# Altium footprint library KF7_62_2P.PcbLib: 1 footprints
Each footprint in its own frame and in the unit in brackets; x right, y up, seen from the top. Pads: shape width x height; smd on the part's side, far side on the other; paste and mask are expansions set on the pad; w line width, h text height; cw(c..) or ccw(c..) is an arc to the next point about the centre after c.
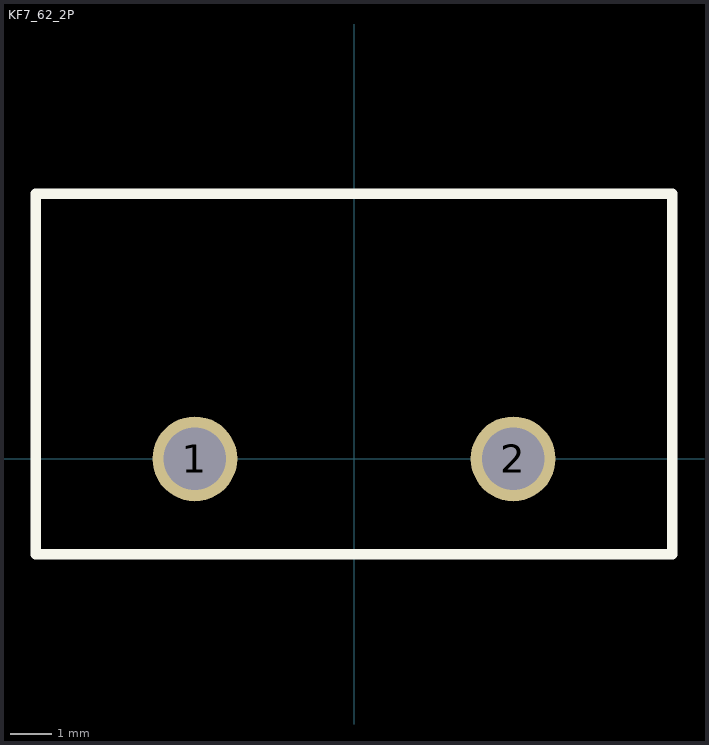
[diagram p0: the footprint, top view; thin cyan lines are the x and y axes]

## KF7_62_2P [mil] "2PIN接线端子"
pads (2):
  round 80 hole 59.06: 1(-150,0) 2(150,0)
Top Overlay:
  lines w10: -300,-90 -300,0 -300,250 300,250 300,-90 -300,-90